# Altium footprint library diode.PcbLib: 49 footprints (part 3 of 4)
Each footprint in its own frame and in the unit in brackets; x right, y up, seen from the top. Pads: shape width x height; smd on the part's side, far side on the other; paste and mask are expansions set on the pad; w line width, h text height; cw(c..) or ccw(c..) is an arc to the next point about the centre after c.
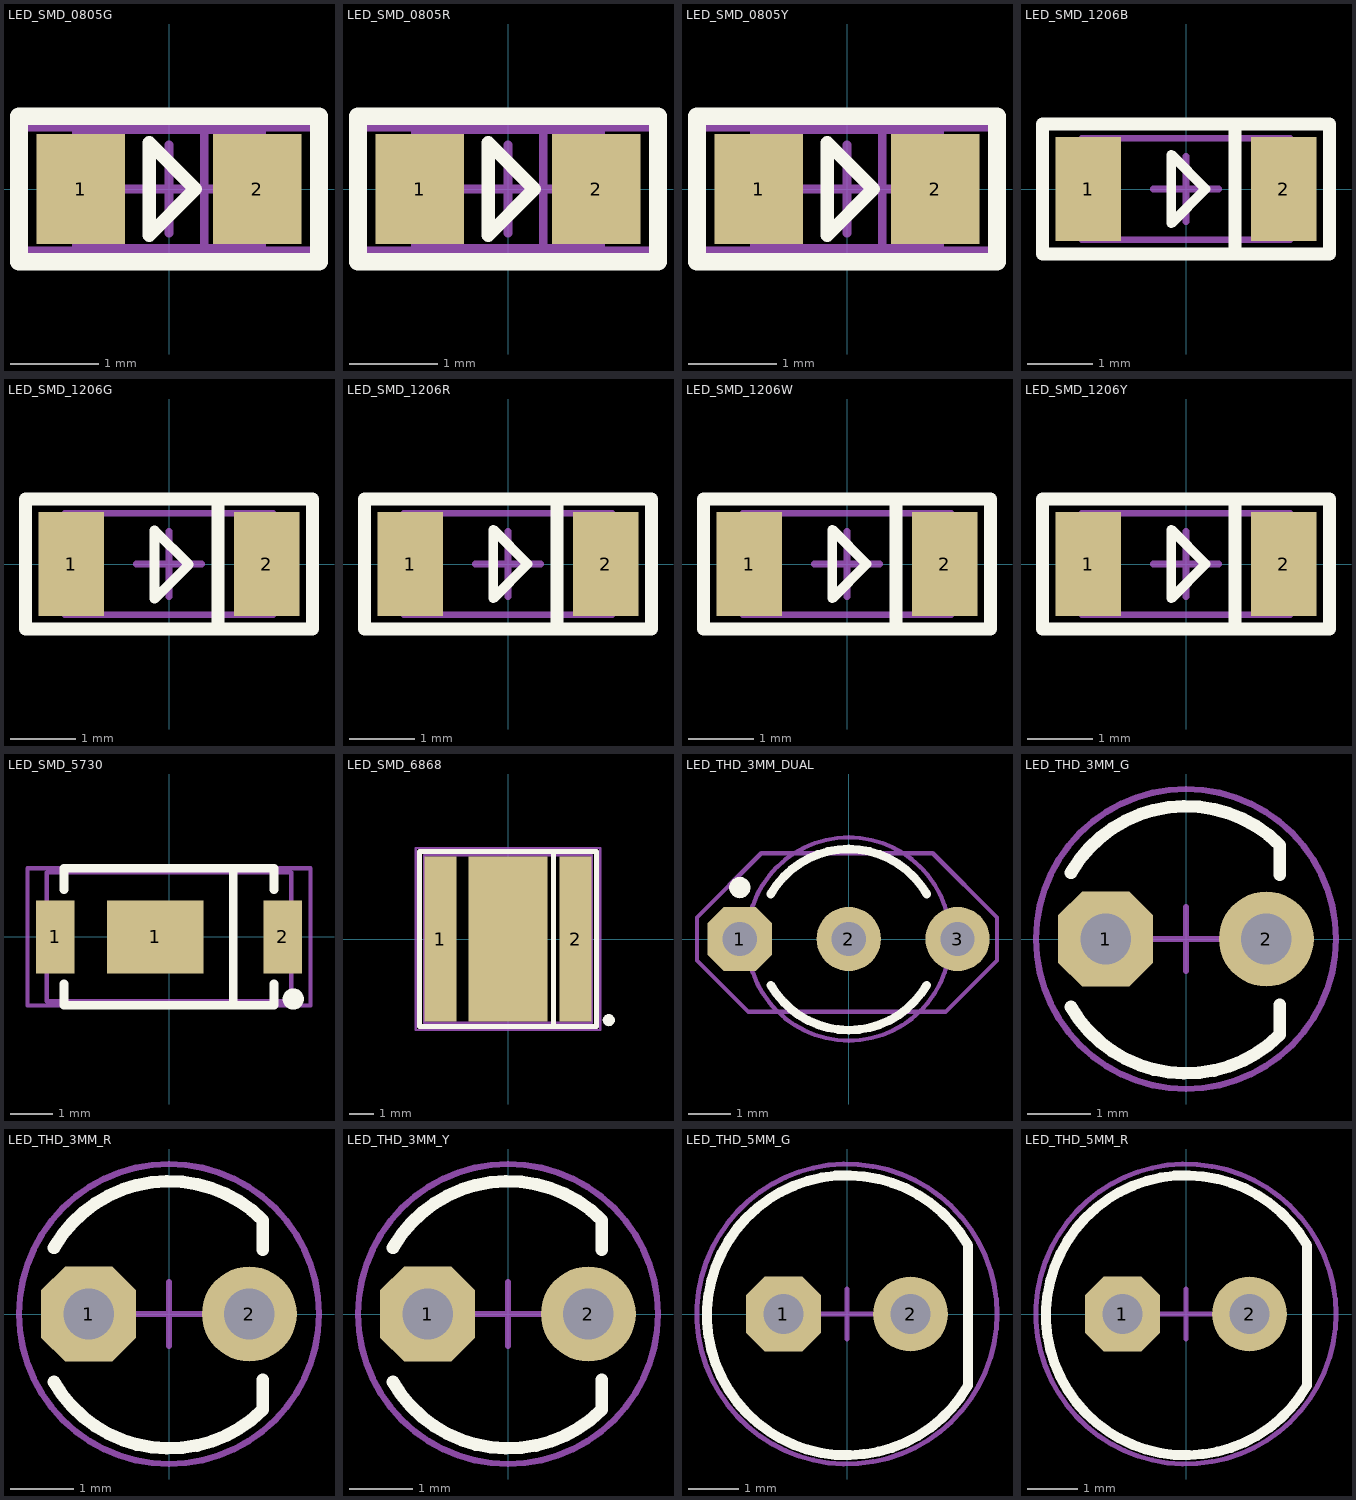
[diagram p2: the footprints below, top view; thin cyan lines are the x and y axes]

## LED_SMD_0805G [mm]
height 1
pads (2):
  rect 1x1.25 smd: 1(-1,0) 2(1,0)
Top Overlay:
  lines w0.15: -0.225,-0.525 0.3,0 -0.225,0.525 -0.225,-0.525
  lines w0.2: -1.7,-0.825 -1.7,0.825 1.7,0.825 1.7,-0.825 -1.7,-0.825
Mechanical 1:
  lines w0.1: 0.4,-0.675 0.4,0.675 ; -1.05,-0.675 -1.05,0.675 1.05,0.675 1.05,-0.675 -1.05,-0.675
Mechanical 15:
  lines w0.1: -0.5,0 0.5,0 ; 0,-0.5 0,0.5 ; -1.7,-0.7 1.7,-0.7 1.7,0.7 -1.7,0.7 -1.7,-0.7
3D body "LED 0805 - GREEN.STEP": height 0.9, standoff -0.01, extent -1.05,-0.675 1.05,0.675

## LED_SMD_0805R [mm]
height 1
pads (2):
  rect 1x1.25 smd: 1(-1,0) 2(1,0)
Top Overlay:
  lines w0.15: -0.225,-0.525 0.3,0 -0.225,0.525 -0.225,-0.525
  lines w0.2: -1.7,-0.825 -1.7,0.825 1.7,0.825 1.7,-0.825 -1.7,-0.825
Mechanical 1:
  lines w0.1: 0.4,-0.675 0.4,0.675 ; -1.05,-0.675 1.05,-0.675 1.05,0.675 -1.05,0.675 -1.05,-0.675
Mechanical 15:
  lines w0.1: -0.5,0 0.5,0 ; 0,-0.5 0,0.5 ; -1.7,-0.7 1.7,-0.7 1.7,0.7 -1.7,0.7 -1.7,-0.7
3D body "User Library-CHIPLED-0805.STEP": height 0.9, standoff -0.01, extent -1.05,-0.675 1.05,0.675

## LED_SMD_0805Y [mm]
height 1
pads (2):
  rect 1x1.25 smd: 1(-1,0) 2(1,0)
Top Overlay:
  lines w0.15: -0.225,-0.525 -0.225,0.525 0.3,0 -0.225,-0.525
  lines w0.2: -1.7,-0.825 1.7,-0.825 1.7,0.825 -1.7,0.825 -1.7,-0.825
Mechanical 1:
  lines w0.1: 0.4,-0.675 0.4,0.675 ; -1.05,-0.675 -1.05,0.675 1.05,0.675 1.05,-0.675 -1.05,-0.675
Mechanical 15:
  lines w0.1: -0.5,0 0.5,0 ; 0,-0.5 0,0.5 ; -1.7,-0.7 -1.7,0.7 1.7,0.7 1.7,-0.7 -1.7,-0.7
3D body "orange.STEP": height 0.9, standoff -0.01, extent -1.05,-0.675 1.05,0.675

## LED_SMD_1206B [mm]
height 0.6
pads (2):
  rect 1x1.6 smd: 1(-1.5,0) 2(1.5,0)
Top Overlay:
  lines w0.15: -0.225,-0.525 -0.225,0.525 0.3,0 -0.225,-0.525
  lines w0.2: 0.75,-1 0.75,1 ; -2.2,-1 -2.2,1 2.2,1 2.2,-1 -2.2,-1
Mechanical 1:
  lines w0.1: -1.6,-0.775 -1.6,0.775 1.6,0.775 1.6,-0.775 -1.6,-0.775
Mechanical 15:
  lines w0.1: -0.5,0 0.5,0 ; 0,-0.5 0,0.5 ; -2.2,-1 2.2,-1 2.2,1 -2.2,1 -2.2,-1
3D body "User Library-FYLS-1206.step": height 1.1, standoff 0, extent -1.6,-0.8 1.6,0.8

## LED_SMD_1206G [mm]
height 0.6
pads (2):
  rect 1x1.6 smd: 1(-1.5,0) 2(1.5,0)
Top Overlay:
  lines w0.15: -0.221,-0.534 -0.221,0.516 0.304,-0.009 -0.221,-0.534
  lines w0.2: 0.75,-1 0.75,1 ; -2.2,-1 -2.2,1 2.2,1 2.2,-1 -2.2,-1
Mechanical 1:
  lines w0.1: -1.6,-0.775 -1.6,0.775 1.6,0.775 1.6,-0.775 -1.6,-0.775
Mechanical 15:
  lines w0.1: -0.5,0 0.5,0 ; 0,-0.5 0,0.5 ; -2.2,-1 2.2,-1 2.2,1 -2.2,1 -2.2,-1
3D body "User Library-FYLS-1206.step": height 1.1, standoff 0, extent -1.6,-0.8 1.6,0.8

## LED_SMD_1206R [mm]
height 0.6
pads (2):
  rect 1x1.6 smd: 1(-1.5,0) 2(1.5,0)
Top Overlay:
  lines w0.15: -0.225,-0.525 -0.225,0.525 0.3,0 -0.225,-0.525
  lines w0.2: 0.75,-1 0.75,1 ; -2.2,-1 2.2,-1 2.2,1 -2.2,1 -2.2,-1
Mechanical 1:
  lines w0.1: -1.6,-0.775 1.6,-0.775 1.6,0.775 -1.6,0.775 -1.6,-0.775
Mechanical 15:
  lines w0.1: -0.5,0 0.5,0 ; 0,-0.5 0,0.5 ; -2.2,-1 -2.2,1 2.2,1 2.2,-1 -2.2,-1
3D body "User Library-FYLS-1206.step": height 1.1, standoff 0, extent -1.6,-0.8 1.6,0.8

## LED_SMD_1206W [mm]
height 0.6
pads (2):
  rect 1x1.6 smd: 1(-1.5,0) 2(1.5,0)
Top Overlay:
  lines w0.15: -0.225,-0.525 -0.225,0.525 0.3,0 -0.225,-0.525
  lines w0.2: 0.75,-1 0.75,1 ; -2.2,-1 -2.2,1 2.2,1 2.2,-1 -2.2,-1
Mechanical 1:
  lines w0.1: -1.6,-0.775 -1.6,0.775 1.6,0.775 1.6,-0.775 -1.6,-0.775
Mechanical 15:
  lines w0.1: -0.5,0 0.5,0 ; 0,-0.5 0,0.5 ; -2.2,-1 2.2,-1 2.2,1 -2.2,1 -2.2,-1
3D body "User Library-FYLS-1206.step": height 1.1, standoff 0, extent -1.6,-0.8 1.6,0.8

## LED_SMD_1206Y [mm]
height 0.6
pads (2):
  rect 1x1.6 smd: 1(-1.5,0) 2(1.5,0)
Top Overlay:
  lines w0.15: -0.225,-0.525 -0.225,0.525 0.3,0 -0.225,-0.525
  lines w0.2: 0.75,-1 0.75,1 ; -2.2,-1 2.2,-1 2.2,1 -2.2,1 -2.2,-1
Mechanical 1:
  lines w0.1: -1.6,-0.775 1.6,-0.775 1.6,0.775 -1.6,0.775 -1.6,-0.775
Mechanical 15:
  lines w0.1: -0.5,0 0.5,0 ; 0,-0.5 0,0.5 ; -2.2,-1 -2.2,1 2.2,1 2.2,-1 -2.2,-1
3D body "User Library-FYLS-1206.step": height 1.1, standoff 0, extent -1.6,-0.8 1.6,0.8

## LED_SMD_5730 [mm]
pads (4):
  rect 0.9x1.7 smd: 1(-2.65,0) 2(2.65,0)
  rect 2.25x1.7 smd: 1(-0.32,0)
  round 0.5 on Top Overlay: ""(2.9,-1.45)
Top Overlay:
  lines w0.2: -2.45,-1.1 -2.45,-1.6 0,-1.6 2.45,-1.6 2.45,-1.1 ; -2.45,1.1 -2.45,1.6 0,1.6 2.45,1.6 2.45,1.1 ; 1.5,-1.6 1.5,1.6
Mechanical 1:
  lines w0.1: -2.85,-1.5 -2.85,1.5 2.85,1.5 2.85,-1.5 -2.85,-1.5
Mechanical 15:
  lines w0.1: -0.3,0 0.3,0 ; 0,-0.3 0,0.3 ; -3.3,-1.6 3.3,-1.6 3.3,1.6 -3.3,1.6 -3.3,-1.6
3D body "LED 5730.stp": height 0.84, standoff 0.04, extent -2.85,-1.5 2.85,1.5

## LED_SMD_6868 [mm]
pads (4):
  rect 1.3x6.7 smd: 1(-2.75,0) 2(2.75,0)
  rect 3.2x6.7 smd: ""(0,0)
  round 0.5 on Top Overlay: ""(4.1,-3.3)
Top Overlay:
  lines w0.2: 1.85,-3.55 1.85,3.5 ; -3.6,-3.55 -3.6,3.55 3.6,3.55 3.6,-3.55 -3.6,-3.55
Mechanical 1:
  lines w0.1: 1.85,-3.4 1.85,3.4 ; -3.4,-3.4 3.4,-3.4 3.4,3.4 -3.4,3.4 -3.4,-3.4
Mechanical 15:
  lines w0.1: -0.3,0 0.3,0 ; 0,-0.3 0,0.3 ; -3.75,-3.7 3.75,-3.7 3.75,3.7 -3.75,3.7 -3.75,-3.7
3D body "6666.STEP": height 1.55, standoff 0, extent -3.4,-3.4 3.4,3.4

## LED_THD_3MM_DUAL [mm]
height 10
pads (4):
  oct 1.5x1.5 hole 0.8: 1(-2.54,0)
  round 1.5 hole 0.8: 2(0,0) 3(2.54,0)
  round 0.5 on Top Overlay: ""(-2.54,1.2)
Top Overlay:
  lines w0.2: -1.819,-1.075 ccw(c0,-0.025) 1.819,-1.075 ; -1.819,1.05 cw(c0,0) 1.819,1.05
Mechanical 1:
  circle w0.1: c0,0 r2.372
Mechanical 15:
  lines w0.1: -3.54,-0.5 -3.54,0.5 -2.04,2 1.96,2 3.46,0.5 3.46,-0.5 2.26,-1.7 -2.34,-1.7 -3.54,-0.5 ; -0.5,0 0.5,0 -0.5,0 ; 0,-0.5 0,0.5 0,-0.5
3D body "3mm_led_dual.STEP": height 11.5, standoff -1, extent -2.844,-1.75 2.84,1.75

## LED_THD_3MM_G [mm] "Green Leaded Led, 3 mm"
height 12
pads (2):
  oct 1.5x1.5 hole 0.8: 1(-1.27,0)
  round 1.5 hole 0.8: 2(1.27,0)
Top Overlay:
  lines w0.2: -1.819,-1.075 ccw(c0,-0.025) 1.485,-1.51 1.485,-1.04 ; -1.819,1.05 cw(c0,0) 1.485,1.485 1.485,1.015
Mechanical 1:
  circle w0.1: c0,0 r2.372
Mechanical 15:
  circle w0.1: c0,0 r2.372
  lines w0.1: -0.5,0 0.5,0 ; 0,-0.5 0,0.5
3D body "3mm_led_grn.STEP": height 12, standoff -1, extent -2,-2 2,2

## LED_THD_3MM_R [mm] "Red Leaded Led, 3 mm"
height 12
pads (2):
  oct 1.5x1.5 hole 0.8: 1(-1.27,0)
  round 1.5 hole 0.8: 2(1.27,0)
Top Overlay:
  lines w0.2: -1.819,-1.075 ccw(c0,-0.025) 1.485,-1.51 1.485,-1.04 ; -1.819,1.05 cw(c0,0) 1.485,1.485 1.485,1.015
Mechanical 1:
  circle w0.1: c0,0 r2.372
Mechanical 15:
  circle w0.1: c0,0 r2.372
  lines w0.1: -0.5,0 0.5,0 ; 0,-0.5 0,0.5
3D body "3mm_led_red.STEP": height 12, standoff -1, extent -2,-2 2,2

## LED_THD_3MM_Y [mm] "Yellow Leaded Led, 3 mm"
height 12
pads (2):
  oct 1.5x1.5 hole 0.8: 1(-1.27,0)
  round 1.5 hole 0.8: 2(1.27,0)
Top Overlay:
  lines w0.2: 1.485,-1.51 cw(c0,-0.025) -1.819,-1.075 ccw(c0,-0.025) 1.485,-1.51 ; 1.485,-1.51 1.485,-1.04 1.485,-1.51 ; 1.485,1.485 ccw(c0,0) -1.819,1.05 cw(c0,0) 1.485,1.485 ; 1.485,1.485 1.485,1.015 1.485,1.485
Mechanical 1:
  circle w0.1: c0,0 r2.372
Mechanical 15:
  circle w0.1: c0,0 r2.372
  lines w0.1: -0.5,0 0.5,0 ; 0,-0.5 0,0.5
3D body "3mm_led_yell.STEP": height 12, standoff -1, extent -2,-2 2,2

## LED_THD_5MM_G [mm] "Green Leaded Led, 5 mm"
height 12
pads (2):
  oct 1.5x1.5 hole 0.8: 1(-1.27,0)
  round 1.5 hole 0.8: 2(1.27,0)
Top Overlay:
  lines w0.2: 2.425,-1.425 cw(c0,-0.025) 2.425,1.375 2.425,-1.425
Mechanical 1:
  circle w0.1: c0,0 r3
Mechanical 15:
  circle w0.1: c0,0 r3
  lines w0.1: -0.5,0 0.5,0 ; 0,-0.5 0,0.5
3D body "5mm_led_grn.STEP": height 14.5, standoff -1, extent -3,-3 3,3

## LED_THD_5MM_R [mm] "Red Leaded Led, 5 mm"
height 12
pads (2):
  oct 1.5x1.5 hole 0.8: 1(-1.27,0)
  round 1.5 hole 0.8: 2(1.27,0)
Top Overlay:
  lines w0.2: 2.425,-1.425 cw(c0,-0.025) 2.425,1.375 2.425,-1.425
Mechanical 1:
  circle w0.1: c0,0 r3
Mechanical 15:
  circle w0.1: c0,0 r3
  lines w0.1: -0.5,0 0.5,0 ; 0,-0.5 0,0.5
3D body "5mm_led_red.STEP": height 14.5, standoff -1, extent -3,-3 3,3